# EAGLE library part A3941KLPTR (library SamacSys_Parts)
Automotive Full Bridge MOSFET Driver Allegro Microsystems A3941KLPTR, Dual Full Bridge MOSFET Power Driver, 5.5 50 V, High Side/Low Side, 28-Pin Source: Datasheet <http://uk.rs-online.com/web/p/products/7248704P>
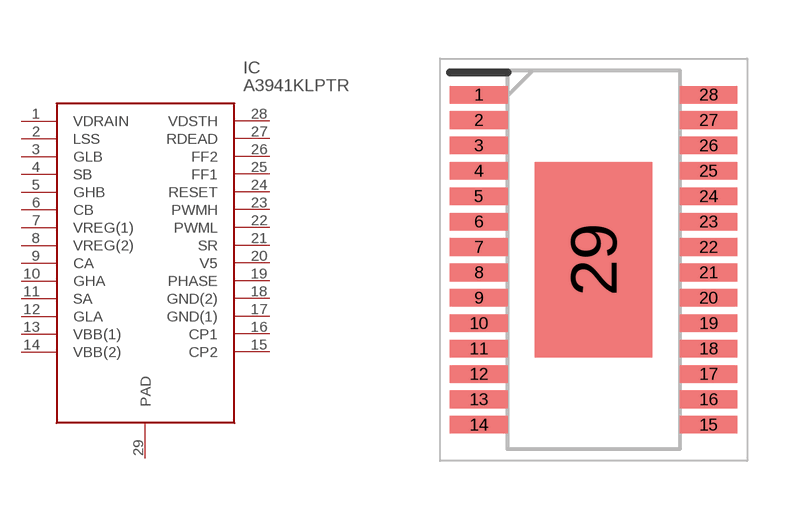
[diagram p0: symbol with the pads of SOP65P640X120-29N; footprint SOP65P640X120-29N]

Designator prefix IC

## A3941KLPTR (Description: Automotive Full Bridge MOSFET Driver Allegro Microsystems A3941KLPTR, Dual Full Bridge MOSFET Power Driver, 5.5 50 V, High Side/Low Side, 28-Pin; Height: 1.2mm; Manufacturer_Name: Allegro Microsystems; Manufacturer_Part_Number: A3941KLPTR; RS_Part_Number: 7248704P)  [SOP65P640X120-29N]
1  VDRAIN  in
2  LSS  in
3  GLB  in
4  SB  in
5  GHB  in
6  CB  in
7  VREG(1)  in
8  VREG(2)  in
9  CA  in
10  GHA  in
11  SA  in
12  GLA  in
13  VBB(1)  in
14  VBB(2)  in
15  CP2  in
16  CP1  in
17  GND(1)  in
18  GND(2)  in
19  PHASE  in
20  V5  in
21  SR  in
22  PWML  in
23  PWMH  in
24  RESET  in
25  FF1  in
26  FF2  in
27  RDEAD  in
28  VDSTH  in
29  PAD  in

## Footprint SOP65P640X120-29N (pad centres in mm)
LP 28-pin TSSOP_1
smd 1.475 x 0.45: 1 -2.938,4.225; 2 -2.938,3.575; 3 -2.938,2.925; 4 -2.938,2.275; 5 -2.938,1.625; 6 -2.938,0.975; 7 -2.938,0.325; 8 -2.938,-0.325; 9 -2.938,-0.975; 10 -2.938,-1.625; 11 -2.938,-2.275; 12 -2.938,-2.925; 13 -2.938,-3.575; 14 -2.938,-4.225; 15 2.938,-4.225; 16 2.938,-3.575; 17 2.938,-2.925; 18 2.938,-2.275; 19 2.938,-1.625; 20 2.938,-0.975; 21 2.938,-0.325; 22 2.938,0.325; 23 2.938,0.975; 24 2.938,1.625; 25 2.938,2.275; 26 2.938,2.925; 27 2.938,3.575; 28 2.938,4.225
smd 3 x 5: 29 0,0